# Altium schematic symbol library PSMN013-30YLC.SchLib: 1 symbol
Pins are listed as number, name and electrical type; pins without a type are passive.

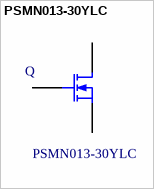
[diagram p0: symbol PSMN013-30YLC]

## PSMN013-30YLC
designator Q  value PSMN013-30YLC  (hidden comment: *)
Manufacturer: NXP; Farnell Code: 2067548; Manufacturer Code: PSMN013-30YLC
footprint LFPAK (Footprint not found)
pins: 1 G, 2 S, 3 D